# Altium schematic symbol library IS43R16160B-6TL.Schlib: 1 symbol
Pins are listed as number, name and electrical type; pins without a type are passive.

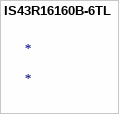
[diagram p0: symbol IS43R16160B-6TL]

## IS43R16160B-6TL
designator *